# Altium schematic symbol library power.SchLib: 9 symbols
Pins are listed as number, name and electrical type; pins without a type are passive.

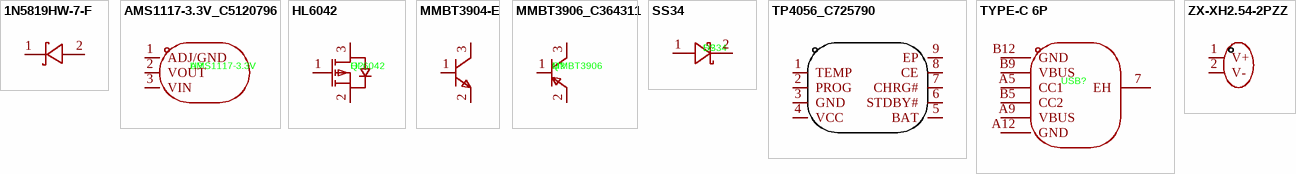
[diagram p0: symbols 1N5819HW-7-F to ZX-XH2.54-2PZZ]

## 1N5819HW-7-F
designator D?  (value not drawn)
肖特基二极管; Manufacturer: DIODES(美台); Add into BOM: yes; Diode Configuration: 1个独立式; Voltage - Forward(Vf@If): 450mV@1A; Voltage - DC Reverse(Vr): 40V; Current - Rectified: 1A; Reverse Leakage Current (Ir): 1mA@40V; Operating Junction Temperature Range: -65℃~+150℃; Non-Repetitive Peak Forward Surge Current: 25A; Symbol: 1N5819HW-7-F; Device: 1N5819HW-7-F; LCSC Part Name: 电压:40V 电流:1A; Supplier Part: C82544; Manufacturer Part: 1N5819HW-7-F; Supplier Footprint: SOD-123; JLCPCB Part Class: Extended Part; Datasheet: https://item.szlcsc.com/datasheet/1N5819HW-7-F/83701.html; Supplier: LCSC; Convert to PCB: yes
footprint SOD-123_L2.7-W1.6-LS3.7-RD
3D model SOD-123_L2.7-W1.6-H1.4-LS3.7
pins: 1 K, 2 A

## AMS1117-3.3V_C5120796
designator U?, comment AMS1117-3.3V
LDO; Manufacturer: MSKSEMI(美森科); Symbol: AMS1117-3.3V_C5120796; Add into BOM: yes; Output Type: 固定; Voltage - Supply: 18V; Output Voltage: 3.3V; Output Current: 1A; Voltage Dropout: 1.4V@(1A); standby current: 12mA; Output Configuration: 正极; Number of Outputs: 1; Device: AMS1117-3.3V_C5120796; LCSC Part Name: 输入18V 输出3.3V 1A; Supplier Part: C5120796; Manufacturer Part: AMS1117-3.3V; Supplier Footprint: SOT-89; JLCPCB Part Class: Extended Part; Datasheet: https://item.szlcsc.com/datasheet/AMS1117-3.3V/5706251.html; Supplier: LCSC; Convert to PCB: yes; Operating Temperature: 0℃~+125℃
footprint SOT-89-3_L4.5-W2.5-P1.50-LS4.2-BR
3D model SOT-89-3_L4.3-W2.5-H1.6-LS4.1-P1.50
pins: 1 ADJ/GND, 2 VOUT, 3 VIN

## HL6042
designator Q?
PMOS; Manufacturer: R+O(宏嘉诚); Add into BOM: yes; Number: 1个P沟道; Drain to Source Voltage: 20V; Current - Continuous Drain(Id): 5A; RDS(on): 43mΩ@4.5V; Pd - Power Dissipation: 1.5W; Gate Threshold Voltage (Vgs(th)): 900mV@250uA; Gate Charge(Qg): 11nC@4.5V; Input Capacitance(Ciss): 905pF; Reverse Transfer Capacitance (Crss@Vds): 115pF; Type: P沟道; Output Capacitance(Coss): 150pF; Symbol: HL6042; Device: HL6042; LCSC Part Name: 1个P沟道 耐压:20V 电流:5A; Supplier Part: C28646264; Manufacturer Part: HL6042; Supplier Footprint: SOT-23; JLCPCB Part Class: Extended Part; Datasheet: https://item.szlcsc.com/datasheet/HL6042/30381010.html; Supplier: LCSC; Convert to PCB: yes; Operating Temperature: -55℃~+150℃
footprint SOT-23-3_L2.9-W1.4-P1.90-LS2.5-BR
3D model SOT-23-3_L2.9-W1.4-P1.90-LS2.5-BR
pins: 1 G, 2 S, 3 D

## MMBT3904-E
designator Q?  (value not drawn)
NPN; Manufacturer: MDD(辰达半导体); Add into BOM: yes; Current - Collector(Ic): 200mA; Collector - Emitter Voltage VCEO: 40V; Pd - Power Dissipation: 200mW; DC Current Gain: 300@10mA,1V; Transition frequency(fT): 300MHz; Current - Collector Cutoff: 100nA; Vce Saturation(VCE(sat)): 500mV@50mA,5mA; Emitter-Base Voltage(Vebo): 6V; Number: 1个NPN; Symbol: MMBT3904-E; Device: MMBT3904-E; LCSC Part Name: NPN 电流:200mA 电压:40V; Supplier Part: C41371422; Manufacturer Part: MMBT3904-E; Supplier Footprint: SOT-23; JLCPCB Part Class: Extended Part; Datasheet: https://item.szlcsc.com/datasheet/MMBT3904-E/43133593.html; Supplier: LCSC; Convert to PCB: yes; type: NPN
footprint SOT-23-3_L2.9-W1.4-P1.90-LS2.5-BR
3D model SOT-23-3_L2.9-W1.4-P1.90-LS2.5-BR
pins: 1 B, 2 E, 3 C

## MMBT3906_C364311
designator Q?, comment MMBT3906
PNP; Manufacturer: MDD(辰达半导体); Symbol: MMBT3906-2A; Device: MMBT3906_C364311; Add into BOM: yes; Current - Collector(Ic): 200mA; Collector - Emitter Voltage VCEO: 40V; Pd - Power Dissipation: 200mW; DC Current Gain: 300@10mA,1V; Transition frequency(fT): 300MHz; Current - Collector Cutoff: 100nA; Vce Saturation(VCE(sat)): 300mV@50mA,5mA; Emitter-Base Voltage(Vebo): 5V; Number: 1个PNP; LCSC Part Name: PNP 电流:200mA 电压:40V; Supplier Part: C364311; Manufacturer Part: MMBT3906; Supplier Footprint: SOT-23; JLCPCB Part Class: Extended Part; Datasheet: https://item.szlcsc.com/datasheet/MMBT3906/338623.html; Supplier: LCSC; Convert to PCB: yes; type: PNP; Operating Temperature: -55℃~+150℃
footprint SOT-23-3_L2.9-W1.3-P0.95-LS2.4-BR
3D model SOT-23-3P_L2.9-W1.3-H1.0-LS2.4-P0.95
pins: 1 B, 2 E, 3 C

## SS34
designator D?
Manufacturer: R+O(宏嘉诚); Symbol: SS34_C7420365; Add into BOM: yes; Diode Configuration: 独立式; Voltage - Forward(Vf@If): 550mV@3.0A; Voltage - DC Reverse(Vr): 40V; Current - Rectified: 3A; Reverse Leakage Current (Ir): 200uA@40V; Device: SS34_C7420365; LCSC Part Name: 电压:40V 电流:3A; Supplier Part: C7420365; Manufacturer Part: SS34; Supplier Footprint: SMA(DO-214AC); JLCPCB Part Class: Extended Part; Datasheet: https://item.szlcsc.com/datasheet/SS34/8397187.html; Supplier: LCSC; Convert to PCB: yes
footprint SMA_L4.3-W2.6-LS5.0-FD
3D model SMA_L4.3-W2.6-LS5.0-FD
pins: 1 A, 2 K

## TP4056_C725790
designator U?  (value not drawn)
锂电池充电管理IC; Manufacturer: UMW(友台半导体); Name: TP4056; Add into BOM: yes; Symbol: TP4056_C725790; Device: TP4056_C725790; LCSC Part Name: TP4056; Supplier Part: C725790; Manufacturer Part: TP4056; Supplier Footprint: ESOP-8; JLCPCB Part Class: Extended Part; Datasheet: https://atta.szlcsc.com/upload/public/pdf/source/20211011/37515E71BA298E23D23475482C49633D.pdf; Supplier: LCSC; Convert to PCB: yes
footprint ESOP-8_L4.9-W3.9-P1.27-LS6.0-BL-EP
3D model ESOP-8_L4.9-W3.9-H1.6-LS6.0-P1.27
pins: 1 TEMP, 2 PROG, 3 GND, 4 VCC, 5 BAT, 6 STDBY#, 7 CHRG#, 8 CE, 9 EP

## TYPE-C 6P
designator USB?  (value not drawn)
Manufacturer: SHOU HAN(首韩); Add into BOM: yes; Gender: 母; Number of Ports: 1; Current Rating - Power (Max): 5A; Rated Voltage (Max): 20V; Connect-Disconnect Life: 3千次; Core Colour: 黑色; Symbol: TYPE-C 6P; Device: TYPE-C 6P; LCSC Part Name: Type-C 母 卧贴; Supplier Part: C456012; Manufacturer Part: TYPE-C 6P; Supplier Footprint: SMD; JLCPCB Part Class: Extended Part; Datasheet: https://atta.szlcsc.com/upload/public/pdf/source/20201203/C456012_B13F72044DF846EDBE9BDD0D1D3CD166.pdf; Supplier: LCSC; Convert to PCB: yes; Connector Type: Type-C; Standard: USB 3.1; Mounting Style: 卧贴; Number of Contacts: 6P; Operating Temperature Range: -40℃~+85℃
footprint TYPE-C-SMD_TYPE-C-6P
3D model TYPE-C-SMD_6P-L8.9-W6.8-H3.2-P1.00
pins: 7 EH, A5 CC1, A9 VBUS, A12 GND, B5 CC2, B9 VBUS, B12 GND

## ZX-XH2.54-2PZZ
designator J?  (value not drawn)
Manufacturer: Megastar(兆星); Add into BOM: yes; Pins Structure: 1x2P; Pitch: 2.5mm; Reference Series: XH; Number of PINs Per Row: 2; Current Rating: 3A; Voltage Rating: 250V; Plastic Material: PA66; Flame Retardant Rating: UL94V-0; Z-Height of the Board: 7mm; X-Length of Bottom Edge on Board (Spacing Line): 7.5mm; Y-Width of Bottom Edge on Board: 5.9mm; Symbol: ZX-XH2.54-2PZZ; Device: ZX-XH2.54-2PZZ; LCSC Part Name: 1x2P 间距:2.5mm 直插 系列:XH; Supplier Part: C7429632; Manufacturer Part: ZX-XH2.54-2PZZ; Supplier Footprint: 插件,P=2.5mm; JLCPCB Part Class: Extended Part; Datasheet: https://item.szlcsc.com/datasheet/ZX-XH2.54-2PZZ/8427549.html; Supplier: LCSC; Convert to PCB: yes; Mounting Type: 直插; Number of Pins: 2P; Number of Rows: 1; Row Spacing: -; Contact Material: 黄铜; Contact Plating: 锡; Operating Temperature: -25℃~+85℃; Supplementary Features: -; Color: 白色
footprint CONN-TH_2P-P2.50_HX25003-2A
3D model CONN-TH_2P-P2.50_HX25003-2A
pins: 1 V+, 2 V-